# Altium schematic symbol library LCD.SchLib: 4 symbols
Pins are listed as number, name and electrical type; pins without a type are passive.

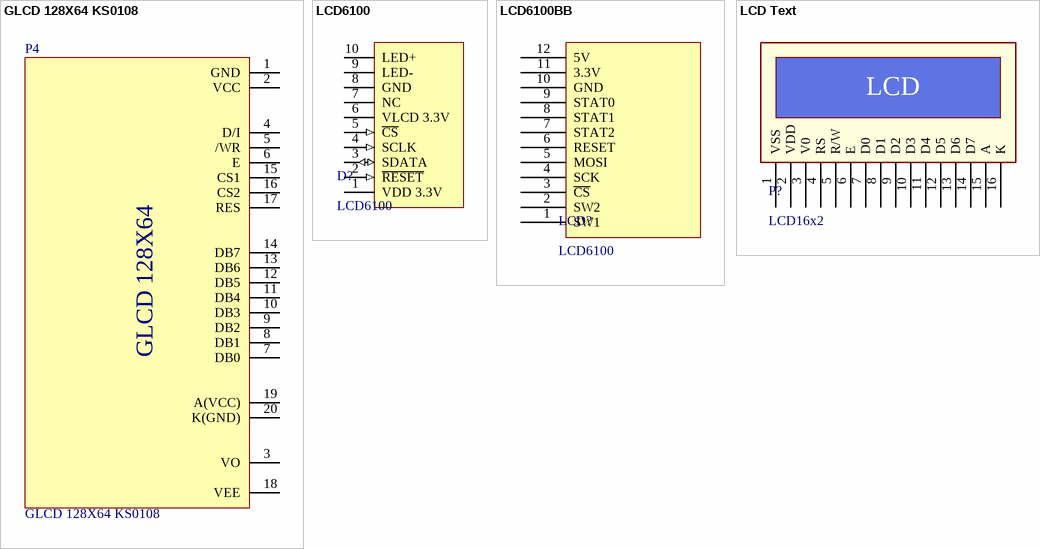
[diagram p0: symbols GLCD 128X64 KS0108 to LCD Text]

## GLCD 128X64 KS0108
designator P4
GLCD LOAI 21 PIN; LatestRevisionDate: 17-Jul-2002; LatestRevisionNote: Re-released for DXP Platform.; Publisher: Altium Limited
footprint LCD128x64 (Footprint not found)
pins: 1 GND, 2 VCC, 3 VO, 4 D/I, 5 /WR, 6 E, 7 DB0, 8 DB1, 9 DB2, 10 DB3, 11 DB4, 12 DB5, 13 DB6, 14 DB7, 15 CS1, 16 CS2, 17 RES, 18 VEE, 19 A(VCC), 20 K(GND)
2 alternate drawings of the same symbol
text: GLCD 128X64

## LCD6100
designator D?
GLCD 132 pixel x 132 pixel - 4096 color
pins: 1 VDD 3.3V (power), 2 ~{RESET} (in), 3 SDATA (io), 4 SCLK (in), 5 ~{CS} (in), 6 VLCD 3.3V (power), 7 NC, 8 GND (power), 9 LED- (power), 10 LED+ (power)

## LCD6100BB
designator LCD?, comment LCD6100
footprint HDR1X12 (Connector; Header; 12 Position)
pins: 1 SW1, 2 SW2, 3 ~{CS}, 4 SCK, 5 MOSI, 6 RESET, 7 STAT2, 8 STAT1, 9 STAT0, 10 GND, 11 3.3V, 12 5V

## LCD Text
designator P?, comment LCD16x2
footprint LCD16X2 (LCD 16x2)
footprint HDR1X16 (Connector; Header; 16 Position)
pins: 1 VSS, 2 VDD, 3 V0, 4 RS, 5 R/W, 6 E, 7 D0, 8 D1, 9 D2, 10 D3, 11 D4, 12 D5, 13 D6, 14 D7, 15 A, 16 K
text: LCD